# EAGLE library part DIP_SW_4P (library F030NG)
DIP Switch 4 pole by CTS
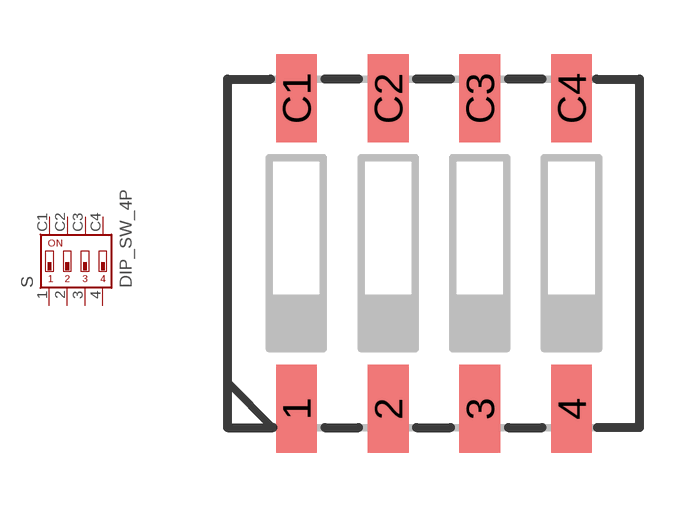
[diagram p75: symbol with the pads of CTS-214-04/SPST; footprint CTS-214-04/SPST]

Designator prefix S

## DIP_SW_4P  [CTS-214-04/SPST]
1  1  pas
2  2  pas
3  3  pas
4  4  pas
C1  C1  pas
C2  C2  pas
C3  C3  pas
C4  C4  pas

## Footprint CTS-214-04/SPST (pad centres in mm)
Surface Mount DIP Switch Series 219 SMT "J" Bend CTS Electronic Components Sourc: www.ctscorp.com
smd 1.13 x 2.44: 1 -3.81,-4.3; 2 -1.27,-4.3; 3 1.27,-4.3; 4 3.81,-4.3; C1 -3.81,4.3; C2 -1.27,4.3; C3 1.27,4.3; C4 3.81,4.3